# Altium footprint library IND_IHLP-5050CE_VIS.PcbLib: 1 footprints
Each footprint in its own frame and in the unit in brackets; x right, y up, seen from the top. Pads: shape width x height; smd on the part's side, far side on the other; paste and mask are expansions set on the pad; w line width, h text height; cw(c..) or ccw(c..) is an arc to the next point about the centre after c.
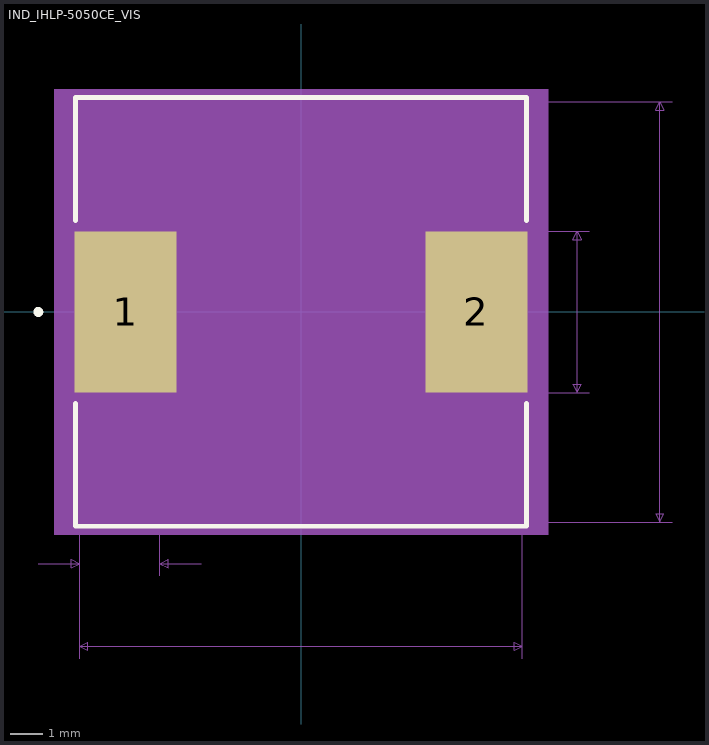
[diagram p0: the footprint, top view; thin cyan lines are the x and y axes]

## IND_IHLP-5050CE_VIS [mil]
pads (2):
  rect 123x195 smd paste+0 mask+0: 1(-212,0) 2(212,0)
Top Overlay:
  circle w6: c-317.5,0 r3
  lines w6: -272.5,-110.6 -272.5,-259 272.5,-259 272.5,-110.6 ; -272.5,110.6 -272.5,259 272.5,259 272.5,110.6
Mechanical 5:
  region: 298.5,-269 -298.5,-269 -298.5,269 298.5,269
Mechanical 7:
  lines w1: -317.5,-304 -267.5,-304 ; -267.5,-419 -267.5,0 -267.5,-319 ; -170.5,-319 -170.5,0 ; -120.5,-304 -170.5,-304 ; 267.5,-419 267.5,0 ; 283.5,-254 448.5,-254 ; 283.5,-97.5 348.5,-97.5 ; 283.5,97.5 348.5,97.5 ; 283.5,254 448.5,254 ; -267.5,-404 267.5,-404 ; -267.5,-404 -257.5,-399 -257.5,-409 -267.5,-404 ; -267.5,-304 -277.5,-299 -277.5,-309 -267.5,-304 ; -170.5,-304 -160.5,-299 -160.5,-309 -170.5,-304 ; 267.5,-404 257.5,-399 257.5,-409 267.5,-404 ; 333.5,-97.5 333.5,97.5 ; 333.5,-97.5 328.5,-87.5 338.5,-87.5 333.5,-97.5 ; 333.5,97.5 328.5,87.5 338.5,87.5 333.5,97.5 ; 433.5,-254 433.5,254 ; 433.5,-254 428.5,-244 438.5,-244 433.5,-254 ; 433.5,254 428.5,244 438.5,244 433.5,254
  text "Default Padstyle: RX123Y195D0T" at -375,-529 h50
  text "Alt 1 Padstyle: OX60Y90D30P" at -337.5,-604 h50
  text "Alt 2 Padstyle: OX90Y60D30P" at -337.5,-679 h50
  text "0.195in/4.953mm" at 353.5,-12.5 h25
  text "0.508in/12.903mm" at 453.5,-12.5 h25
  text "0.535in/13.589mm" at -100,-449 h25
  text "0.097in/2.464mm" at -312.75,-349 h25
Mechanical 13:
  circle w0: c-247.5,0 r3
  lines w1: -267.5,-254 267.5,-254 267.5,254 -267.5,254 -267.5,-254
Mechanical 15:
  region: -277.5,-107.5 -283.5,-107.5 -283.5,107.5 -277.5,107.5 -277.5,264 277.5,264 277.5,107.5 283.5,107.5 283.5,-107.5 277.5,-107.5 277.5,-264 -277.5,-264
  lines w6: -283.5,-107.5 -283.5,107.5 -277.5,107.5 -277.5,264 277.5,264 277.5,107.5 283.5,107.5 283.5,-107.5 277.5,-107.5 277.5,-264 -277.5,-264 -277.5,-107.5 -283.5,-107.5
3D body: height 10, standoff 0, extent 0,0 10,10